# Altium schematic symbol library boxheader.SchLib: 2 symbols
Pins are listed as number, name and electrical type; pins without a type are passive.

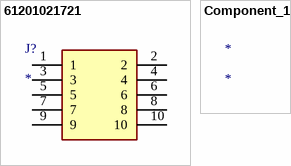
[diagram p0: symbols 61201021721 to Component_1]

## 61201021721
designator J?
Connector; Manufacturer_Name: Wurth Elektronik; Manufacturer_Part_Number: 61201021721; Datasheet Link: https://componentsearchengine.com//61201021721.pdf; Height: 9.1mm; Mouser2 Part Number: 710-61201021721; Mouser2 Price/Stock: https://www.mouser.com/Search/Refine.aspx?Keyword=710-61201021721
footprint SHDRRA10W64P254X254_2X5_2036X885X910P
pins: 1, 2, 3, 4, 5, 6, 7, 8, 9, 10

## Component_1
designator *